# Altium footprint library Resolver_PCB.PcbLib: 22 footprints (part 1 of 2)
Each footprint in its own frame and in the unit in brackets; x right, y up, seen from the top. Pads: shape width x height; smd on the part's side, far side on the other; paste and mask are expansions set on the pad; w line width, h text height; cw(c..) or ccw(c..) is an arc to the next point about the centre after c.
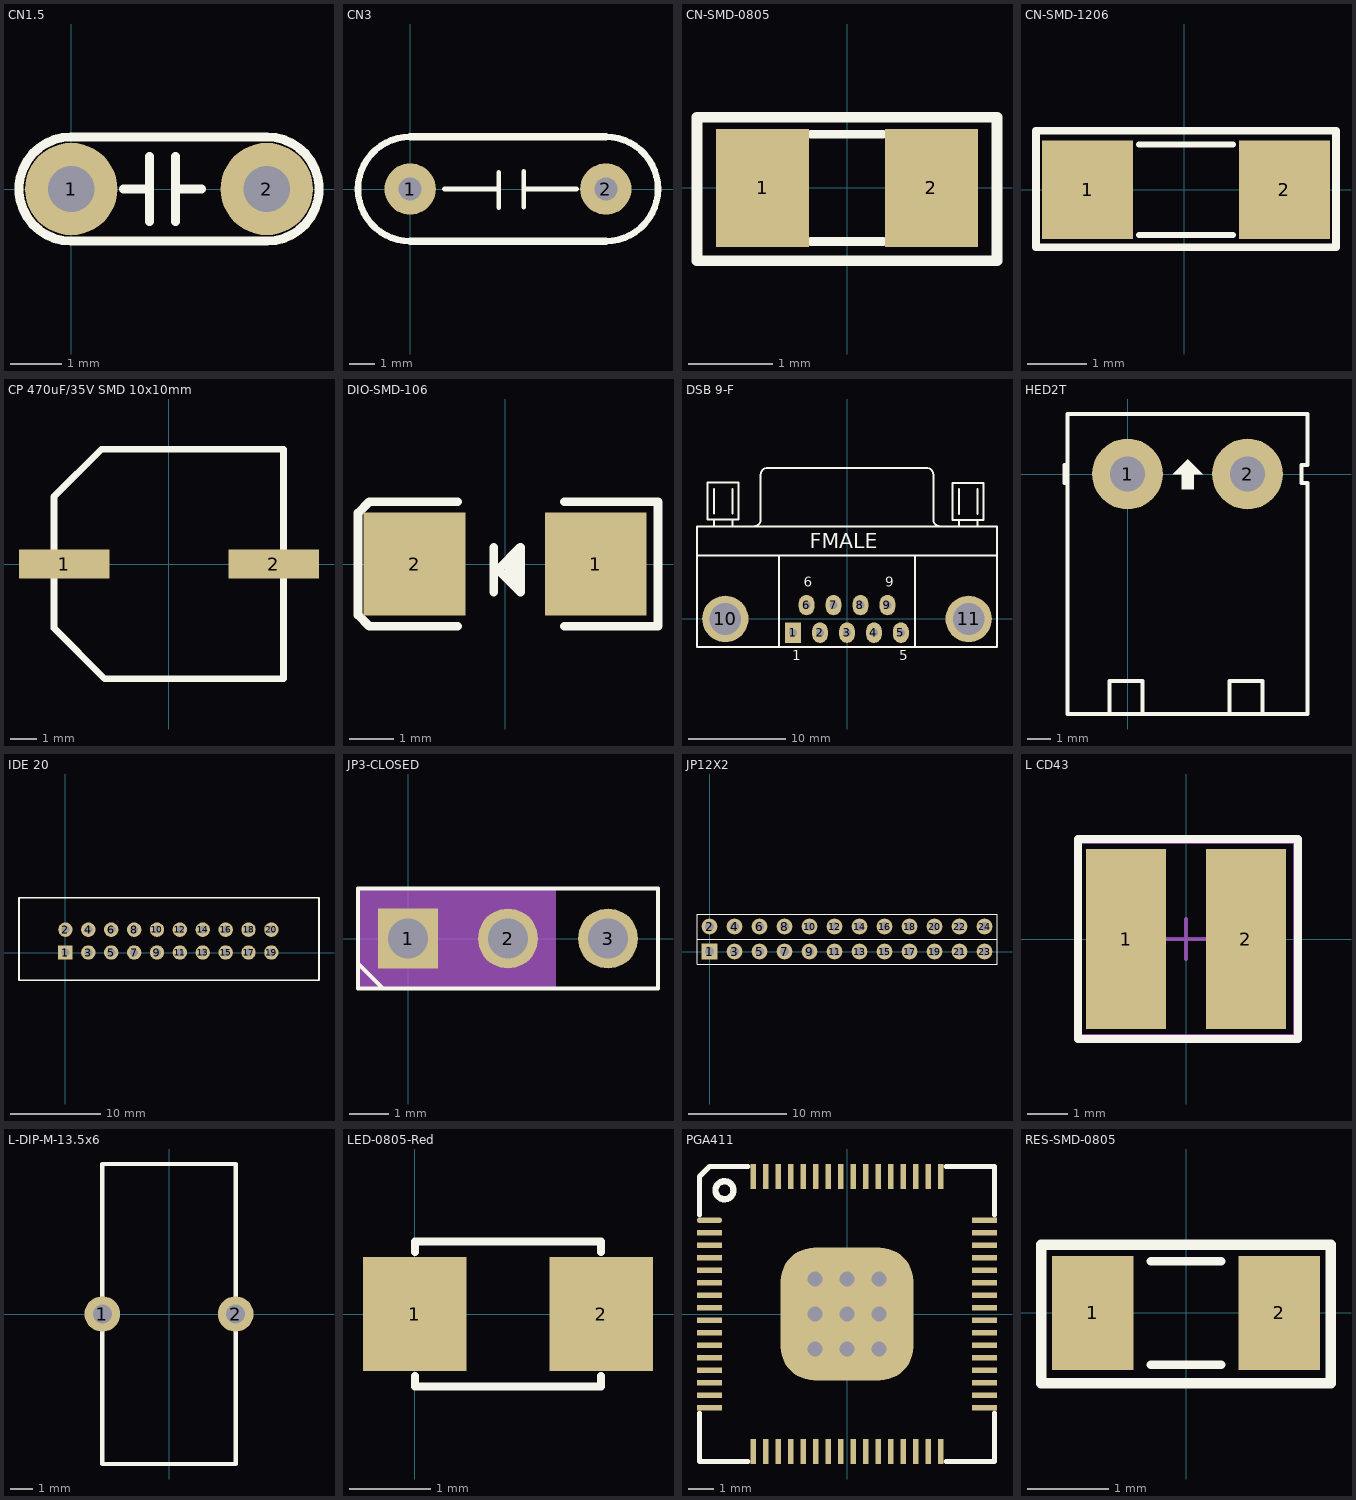
[diagram p0: the footprints below, top view; thin cyan lines are the x and y axes]

## CN1.5 [mm]
height 5.08
pads (2):
  round 1.8 hole 0.9: 1(0,0) 2(3.81,0)
Top Overlay:
  lines w0.178: 1.016,0 1.524,0 ; 1.524,-0.635 1.524,0.635 ; 2.032,-0.635 2.032,0.635 ; 2.032,0 2.54,0 ; 0,-1.016 cw(c0,0) 0,1.016 3.81,1.016 cw(c3.81,0) 3.81,-1.016 0,-1.016
3D body "cn104.STEP": height 5.97, standoff -1.95, extent -1.013,-0.848 4.826,0.848

## CN3 [mm] "Cap np W 0.3"
height 5.08
pads (2):
  round 2 hole 0.9: 1(0,0) 2(7.62,0)
Top Overlay:
  lines w0.178: 1.321,0 3.454,0 ; 3.454,-0.737 3.454,0.66 ; 4.42,-0.711 4.42,0.686 ; 4.42,0 6.477,0
  lines w0.254: 0,-2.032 cw(c0,0) 0,2.032 ; 7.62,-2.032 ccw(c7.62,0) 7.62,2.032
  lines w0.3: 0,-2.032 7.62,-2.032 ; 0,2.032 7.62,2.032
3D body "User Library-CAP750 8_9x8x4.STEP": height 8, standoff -10, extent -0.59,-2 8.21,2

## CN-SMD-0805 [mm]
pads (2):
  rect 1.1x1.397 smd: 1(-1,0) 2(1,0)
Top Overlay:
  lines w0.102: -0.432,-0.635 0.432,-0.635 ; -0.432,0.635 0.432,0.635
  lines w0.127: -1.778,-0.864 -1.778,0.838 1.778,0.838 1.778,-0.864 -1.778,-0.864
3D body "0805 SMD Capacitor.step": height 0.8, standoff 0.02, extent -1,-0.625 1,0.625

## CN-SMD-1206 [mil]
pads (2):
  rect 60x65 smd: 1(-64,0) 2(66,0)
Top Overlay:
  lines w4: -30,-30 32,-30 ; -30,30 32,30
  lines w5: -98,-38 100,-38 100,39 -98,39 -98,-38
3D body "1206 SMD Capacitor.step": height 40.05, standoff 0.6, extent -62.98,-31.49 63,31.51

## CP 470uF/35V SMD 10x10mm [mm] "10*10mm"
pads (2):
  rect 3.4x1.1 smd: 1(-3.937,0) 2(3.95,0)
Top Overlay:
  lines w0.254: -4.318,-2.413 -4.318,2.54 -2.54,4.318 4.318,4.318 4.318,-4.318 -2.413,-4.318 -4.318,-2.413
3D body "User Library-00001427 - 220µF-35V [S8D0_10L2_9M1] FKserie Low ESR.step": height 10.21, standoff -0.01, extent -4.95,-4.15 4.95,4.15

## DIO-SMD-106 [mil]
pads (2):
  rect 90x90.55 smd: 1(80,0) 2(-80,0)
Top Overlay:
  lines w7.87: -42.24,-55 -120,-55 -130,-45 -130,45 -120,55 -42.24,55 ; -10.12,-24.68 -10.12,14.69 ; 3.66,-10.91 3.66,0.91 ; 9.57,-16.81 9.57,6.81 ; 52.24,-55 135,-55 135,55 52.24,55 ; -6.18,-5 13.5,-24.68 13.5,14.69 -6.18,-5
Mechanical 1:
  lines w3.94: -2.87,0 12.87,0 ; 5,-7.87 5,7.87
3D body "User Library-DO-214Aa SMA.step": height 94.69, standoff 0, extent -98.7,-50.27 106.03,52.09

## DSB 9-F [mm] "COM FMALE - D Subminiature; 9 Position; Right Angle; Pitch 1.385 mm"
height 12.75
pads (11):
  rect 1.6x2.1 hole 0.8: 1(-5.54,-1.42)
  oval 1.6x2.1 hole 0.8: 2(-2.77,-1.42) 3(0,-1.42) 4(2.77,-1.42) 5(5.54,-1.42) 6(-4.155,1.42) 7(-1.385,1.42) 8(1.385,1.42) 9(4.155,1.42)
  round 4.76 hole 3.26: 10(-12.495,0) 11(12.495,0)
Top Overlay:
  lines w0.2: -15.4,6.5 15.4,6.5 ; -9.56,9.505 ccw(c-9.56,10.2) -8.865,10.2 -8.865,14.8 ; -8.86,14.805 cw(c-8.165,14.805) -8.165,15.5 8.165,15.5 cw(c8.165,14.805) 8.86,14.805 ; -7,-2.9 -7,6.5 ; 7,-2.9 7,6.5 ; 8.865,14.8 8.865,10.2 ccw(c9.56,10.2) 9.56,9.505 ; -15.4,-2.9 -15.4,9.5 15.4,9.5 15.4,-2.9 -15.4,-2.9
  lines w0.203: -13.665,9.551 -13.665,10.186 ; -13.665,10.821 -13.665,13.361 ; -11.76,9.551 -11.76,10.186 ; -11.76,10.821 -11.76,13.361 ; 11.481,9.5 11.481,10.135 ; 11.481,10.77 11.481,13.31 ; 13.386,9.5 13.386,10.135 ; 13.386,10.77 13.386,13.31 ; -14.3,10.186 -11.125,10.186 -11.125,13.996 -14.3,13.996 -14.3,10.186 ; 10.846,10.135 14.021,10.135 14.021,13.945 10.846,13.945 10.846,10.135
  text "1" at -5.634,-4.231 h1.02
  text "5" at 5.366,-4.231 h1.02
  text "9" at 3.937,3.302 h1.02
  text "6" at -4.445,3.302 h1.02
  text "FMALE" at -3.81,7.239 h1.52
3D body "SW3dPS-9-PIN_DSUB-1.STEP": height 12.56, standoff -3.16, extent -15.354,-3.505 15.456,15.57

## HED2T [mm] "Header 2, 2 pin, hight 300mil, Pin to Pin 200, Colour Green"
height 7.62
pads (2):
  round 3 hole 1.5: 1(0,0) 2(5.08,0)
Top Overlay:
  region: 2.54,0.635 1.905,0 2.286,0 2.286,-0.635 2.794,-0.635 2.794,0 3.175,0
  lines w0.178: -2.667,-0.381 -2.667,0.381 ; -2.54,2.54 -2.54,-10.16 7.62,-10.16 7.62,-0.381 7.366,-0.381 7.366,0.381 7.62,0.381 7.62,2.54 -2.489,2.54 ; -0.762,-10.16 -0.762,-8.763 0.635,-8.763 0.635,-10.16 ; 4.318,-10.16 4.318,-8.763 5.715,-8.763 5.715,-10.16
3D body "SW3dPS-5EHDR_2P.STEP": height 8.47, standoff -4, extent -2.456,-10.14 7.544,1.86

## IDE 20 [mm]
pads (20):
  rect 1.6x1.6 hole 0.9: 1(0,0)
  round 1.6 hole 0.9: 2(0,2.54) 3(2.54,0) 4(2.54,2.54) 5(5.08,0) 6(5.08,2.54) 7(7.62,0) 8(7.62,2.54) 9(10.16,0) 10(10.16,2.54) 11(12.7,0) 12(12.7,2.54) 13(15.24,0) 14(15.24,2.54) 15(17.78,0) 16(17.78,2.54) 17(20.32,0) 18(20.32,2.54) 19(22.86,0) 20(22.86,2.54)
Top Overlay:
  lines w0.178: -5.156,-3.099 -5.156,6.096 28.143,6.096 28.143,-3.099 -5.156,-3.099
3D body "User Library-IDC Socket Male 20pin Straight THT Goldplated 2_54mm.STEP": height 9.13, standoff -3.27, extent -5.029,-2.952 27.971,5.898

## JP3-CLOSED [mil]
pads (3):
  rect 60x60 hole 40: 1(0,0)
  round 60 hole 40: 2(100,0) 3(200,0)
Top Overlay:
  lines w4: -50,-25 -50,-50 -25,-50 ; -50,-25 -25,-50 ; -50,-25 -50,50 250,50 250,-50 -25,-50
Mechanical 3:
  rectangle: -49.5,-51 148,49.5
3D body: height 300, standoff -120, extent -15,-15.25 15,14.75
3D body: height 300, standoff -120, extent 85,-15.25 115,14.75
3D body: height 300, standoff -120, extent 185,-15 215,15
3D body: height 100, standoff 0, extent -49.93,-50 250,50
3D body: height 220, standoff 100, extent -52,-48 148,48
3D body: height 250, standoff 220, extent -44,-40 139.5,41
3D body: height 280, standoff 250, extent -52,-48 148,48

## JP12X2 [mm]
pads (24):
  rect 1.6x1.6 hole 0.9: 1(0,0)
  round 1.6 hole 0.9: 2(0,2.54) 3(2.54,0) 4(2.54,2.54) 5(5.08,0) 6(5.08,2.54) 7(7.62,0) 8(7.62,2.54) 9(10.16,0) 10(10.16,2.54) 11(12.7,0) 12(12.7,2.54) 13(15.24,0) 14(15.24,2.54) 15(17.78,0) 16(17.78,2.54) 17(20.32,0) 18(20.32,2.54) 19(22.86,0) 20(22.86,2.54) 21(25.4,0) 22(25.4,2.54) 23(27.94,0) 24(27.94,2.54)
Top Overlay:
  lines w0.127: -1.27,1.27 29.21,1.27 ; -1.27,-1.27 -1.27,3.81 29.21,3.81 29.21,-1.27 -1.27,-1.27
3D body "JP6X2.stp": height 8.52, standoff -2.98, extent -1.27,-1.27 13.97,3.81
3D body "JP6X2.stp": height 8.52, standoff -2.98, extent 13.97,-1.27 29.21,3.81

## L CD43 [mm] "4.5x4x3.2mm"
height 3.5
pads (2):
  rect 2x4.5 smd: 1(-1.5,0) 2(1.5,0)
Top Overlay:
  lines w0.2: -2.7,-2.5 2.8,-2.5 2.8,2.5 0,2.5 -2.7,2.5 -2.7,-2.5
Mechanical 15:
  lines w0.05: -2.7,-2.4 -2.7,2.4 2.7,2.4 2.7,-2.4 -2.7,-2.4
  lines w0.1: -0.5,0 0.5,0 ; 0,-0.5 0,0.5
3D body "INDUCTOR CD43NP.step": height 3.51, standoff 0.01, extent -2.4,-2.15 2.4,2.15

## L-DIP-M-13.5x6 [mm] "Body 13.5x6mm, 2 leads"
height 13.5
pads (2):
  round 1.6 hole 0.85: 1(-3,0) 2(3,0)
Top Overlay:
  lines w0.2: -3,-6.75 3,-6.75 3,6.75 -3,6.75 -3,-6.75
3D body "7447035.stp": height 14.8, standoff -14.25, extent -3.62,-7.352 3.62,7.351

## LED-0805-Red [mil]
pads (2):
  rect 50x55 smd: 1(0,0) 2(90,0)
Top Overlay:
  lines w4: 0,-30 0,-35 90,-35 90,-30 ; 0,30 0,35 90,35 90,30
3D body "User Library-led_0805-red.step": height 43.31, standoff 0, extent 5.25,-24.6 84.77,24.62

## PGA411 [mm]
pads (65):
  oval 1x0.22 smd: 1(-5.5,3.75)
  rect 1x0.22 smd: 2(-5.5,3.25) 3(-5.5,2.75) 4(-5.5,2.25) 5(-5.5,1.75) 6(-5.5,1.25) 7(-5.5,0.75) 8(-5.5,0.25) 9(-5.5,-0.25) 10(-5.5,-0.75) 11(-5.5,-1.25) 12(-5.5,-1.75) 13(-5.5,-2.25) 14(-5.5,-2.75) 15(-5.5,-3.25) 16(-5.5,-3.75) 33(5.5,-3.75) 34(5.5,-3.25) 35(5.5,-2.75) 36(5.5,-2.25) 37(5.5,-1.75) 38(5.5,-1.25) 39(5.5,-0.75) 40(5.5,-0.25) 41(5.5,0.25) 42(5.5,0.75) 43(5.5,1.25) 44(5.5,1.75) 45(5.5,2.25) 46(5.5,2.75) 47(5.5,3.25) 48(5.5,3.75)
  rect 0.22x1 smd: 17(-3.75,-5.5) 18(-3.25,-5.5) 19(-2.75,-5.5) 20(-2.25,-5.5) 21(-1.75,-5.5) 22(-1.25,-5.5) 23(-0.75,-5.5) 24(-0.25,-5.5) 25(0.25,-5.5) 26(0.75,-5.5) 27(1.25,-5.5) 28(1.75,-5.5) 29(2.25,-5.5) 30(2.75,-5.5) 31(3.25,-5.5) 32(3.75,-5.5) 49(3.75,5.5) 50(3.25,5.5) 51(2.75,5.5) 52(2.25,5.5) 53(1.75,5.5) 54(1.25,5.5) 55(0.75,5.5) 56(0.25,5.5) 57(-0.25,5.5) 58(-0.75,5.5) 59(-1.25,5.5) 60(-1.75,5.5) 61(-2.25,5.5) 62(-2.75,5.5) 63(-3.25,5.5) 64(-3.75,5.5)
  rrect50% 5.3x5.3 smd: ""(0,0)
via -1.27,1.397 diameter 0.6 hole 0.6
via 0,1.397 diameter 0.6 hole 0.6
via 1.27,1.397 diameter 0.6 hole 0.6
via 1.27,0 diameter 0.6 hole 0.6
via 0,0 diameter 0.6 hole 0.6
via -1.27,0 diameter 0.6 hole 0.6
via -1.27,-1.397 diameter 0.6 hole 0.6
via 0,-1.397 diameter 0.6 hole 0.6
via 1.27,-1.397 diameter 0.6 hole 0.6
Top Overlay:
  circle w0.254: c-4.9,4.95 r0.361
  lines w0.2: -5.9,-3.97 -5.9,-5.9 -3.97,-5.9 ; -5.9,3.97 -5.9,5.5 -5.5,5.9 -3.97,5.9 ; 3.97,-5.9 5.9,-5.9 5.9,-3.97 ; 3.97,5.9 5.9,5.9 5.9,3.97
3D body "SW3dPS-PQFP64_TP.STEP": height 1.02, standoff -0.09, extent -5.753,-5.775 5.822,5.806

## RES-SMD-0805 [mil]
pads (2):
  rect 39.37x55 smd: 1(-45,0) 2(45,0)
Top Overlay:
  lines w4: -17,-25 17,-25 ; -17,25 17,25
  lines w5: -70,-34 70,-34 70,33 -70,33 -70,-34
3D body "SW3dPS-0805 SMD Resistor.STEP": height 31.39, standoff 0.6, extent -39.36,-24.6 39.38,24.61